# Altium footprint library F4SDR.PcbLib: 69 footprints (part 2 of 5)
Each footprint in its own frame and in the unit in brackets; x right, y up, seen from the top. Pads: shape width x height; smd on the part's side, far side on the other; paste and mask are expansions set on the pad; w line width, h text height; cw(c..) or ccw(c..) is an arc to the next point about the centre after c.
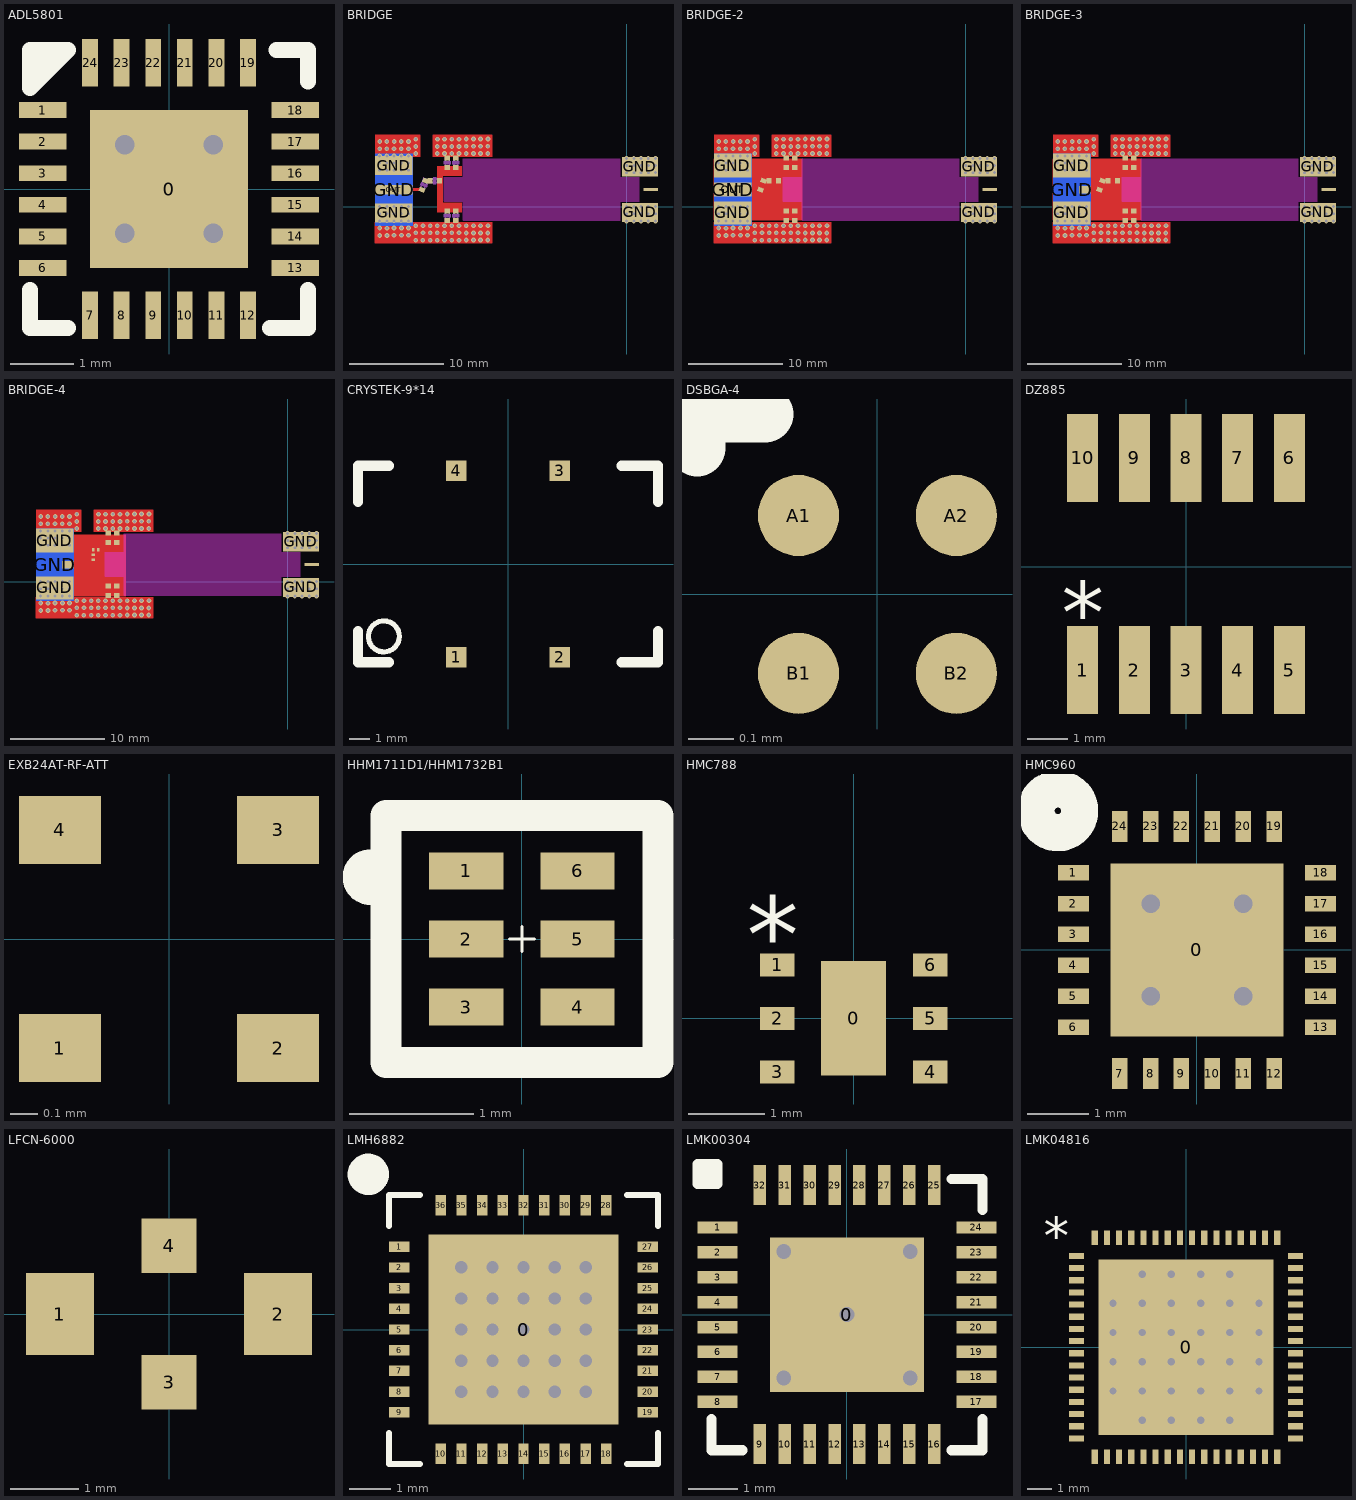
[diagram p1: the footprints below, top view; thin cyan lines are the x and y axes]

## ADL5801 [mm]
pads (25):
  rect 2.5x2.5 smd: 0(0,0)
  rect 0.75x0.25 smd: 1(-2,1.25) 2(-2,0.75) 3(-2,0.25) 4(-2,-0.25) 5(-2,-0.75) 6(-2,-1.25) 13(2,-1.25) 14(2,-0.75) 15(2,-0.25) 16(2,0.25) 17(2,0.75) 18(2,1.25)
  rect 0.25x0.75 smd: 7(-1.25,-2) 8(-0.75,-2) 9(-0.25,-2) 10(0.25,-2) 11(0.75,-2) 12(1.25,-2) 19(1.25,2) 20(0.75,2) 21(0.25,2) 22(-0.25,2) 23(-0.75,2) 24(-1.25,2)
via -0.7,-0.7 diameter 0.508 hole 0.305
via 0.7,-0.7 diameter 0.508 hole 0.305
via 0.7,0.7 diameter 0.508 hole 0.305
via -0.7,0.7 diameter 0.508 hole 0.305
Top Overlay:
  lines w0.254: -2.2,-1.6 -2.2,-2.2 -1.6,-2.2 ; -2,2 -1.8,2.2 -1.6,2.2 ; 1.6,-2.2 2.2,-2.2 2.2,-1.6 ; 1.7,2.2 2.2,2.2 2.2,1.7 ; -1.6,2.2 -2.2,1.6 -2.2,2.2 -1.6,2.2
3D body: height 0.85, standoff 0, extent -2,-2 2,2

## BRIDGE [mil]
pads (19):
  rect 20x24 smd: 2(-778.39,107.28) COUPLE(-818.07,107.28)
  rect 24x20 smd: 2(-745.91,-18.39) 2(-745.91,162.4) 2(-710.47,162.4) 2(-710.47,-18.39) GND(-745.91,-58.07) GND(-745.91,202.09) GND(-710.47,202.09) GND(-710.47,-58.07)
  rect 20x24 smd rot 70: COUPLE(-837.44,107.47) OUT(-850.71,70.35)
  rect 156x78.74 smd: GND(-969.33,-26.57) GND(-969.33,170.28)
  rect 156x300 smd far side: GND(-967.44,70.47)
  rect 150x80 smd: GND(55.47,-24.53) GND(55.47,165.47)
  rect 156x39 smd: OUT(-969.44,70.47)
  rect 59.06x13 smd: SOURCE(100.47,70.47)
via 120,-60 diameter 19.68 hole 12
via -0.47,-60.47 diameter 19.68 hole 12
via 59.53,-60.47 diameter 19.68 hole 12
via 30,-60.47 diameter 19.68 hole 12
via 90,-60.47 diameter 19.68 hole 12
via 120,200 diameter 19.68 hole 12
via -0.47,199.53 diameter 19.68 hole 12
via 59.53,199.53 diameter 19.68 hole 12
via 30,199.53 diameter 19.68 hole 12
via 90,199.53 diameter 19.68 hole 12
via -667.44,-110 diameter 19.68 hole 12
via -667.44,-139.53 diameter 19.68 hole 12
via -637.44,-110 diameter 19.68 hole 12
via -637.44,-139.53 diameter 19.68 hole 12
via -607.44,-110 diameter 19.68 hole 12
via -607.44,-139.53 diameter 19.68 hole 12
via -577.44,-110 diameter 19.68 hole 12
via -577.44,-139.53 diameter 19.68 hole 12
via -576.97,-79.53 diameter 19.68 hole 12
via -636.97,-79.53 diameter 19.68 hole 12
via -607.44,-79.53 diameter 19.68 hole 12
via -667.44,-79.53 diameter 19.68 hole 12
via -667.44,280.94 diameter 19.68 hole 12
via -607.44,280.94 diameter 19.68 hole 12
via -636.97,280.94 diameter 19.68 hole 12
via -576.97,280.94 diameter 19.68 hole 12
via -577.44,220.94 diameter 19.68 hole 12
via -577.44,250.47 diameter 19.68 hole 12
via -607.44,220.94 diameter 19.68 hole 12
via -607.44,250.47 diameter 19.68 hole 12
via -637.44,220.94 diameter 19.68 hole 12
via -637.44,250.47 diameter 19.68 hole 12
via -667.44,220.94 diameter 19.68 hole 12
via -667.44,250.47 diameter 19.68 hole 12
via 120.47,140.94 diameter 19.68 hole 12
via 120.47,170.94 diameter 19.68 hole 12
via 90.47,170.94 diameter 19.68 hole 12
via 60.47,170.94 diameter 19.68 hole 12
via 30.47,170.94 diameter 19.68 hole 12
via 0.47,170.94 diameter 19.68 hole 12
via 0,140.47 diameter 19.68 hole 12
via 60,140.47 diameter 19.68 hole 12
via 30.47,140.47 diameter 19.68 hole 12
via 90.47,140.47 diameter 19.68 hole 12
via -1027.44,-120 diameter 19.68 hole 12
via -1027.44,-89.53 diameter 19.68 hole 12
via -996.97,-90 diameter 19.68 hole 12
via -996.97,-120 diameter 19.68 hole 12
via -967.44,-119.53 diameter 19.68 hole 12
via -1027.44,0.47 diameter 19.68 hole 12
via -967.44,-89.06 diameter 19.68 hole 12
via -967.44,0.47 diameter 19.68 hole 12
via -996.97,0.47 diameter 19.68 hole 12
via -907.44,0.47 diameter 19.68 hole 12
via -936.97,0.47 diameter 19.68 hole 12
via -907.44,-59.53 diameter 19.68 hole 12
via -907.44,-30 diameter 19.68 hole 12
via -937.44,-59.53 diameter 19.68 hole 12
via -937.44,-30 diameter 19.68 hole 12
via -967.44,-59.53 diameter 19.68 hole 12
via -967.44,-30 diameter 19.68 hole 12
via -997.44,-59.53 diameter 19.68 hole 12
via -997.44,-30 diameter 19.68 hole 12
via -1027.44,-59.53 diameter 19.68 hole 12
via -1027.44,-30 diameter 19.68 hole 12
via -907.44,-89.53 diameter 19.68 hole 12
via -936.97,-89.53 diameter 19.68 hole 12
via -907.44,-119.53 diameter 19.68 hole 12
via -936.97,-119.53 diameter 19.68 hole 12
via -907.44,270.47 diameter 19.68 hole 12
via -697.44,-140 diameter 19.68 hole 12
via -757.44,-140 diameter 19.68 hole 12
via -727.91,-140 diameter 19.68 hole 12
via -817.44,-140 diameter 19.68 hole 12
via -787.91,-140 diameter 19.68 hole 12
via -877.44,-140 diameter 19.68 hole 12
via -847.91,-140 diameter 19.68 hole 12
via -877.44,-80 diameter 19.68 hole 12
via -877.44,-109.53 diameter 19.68 hole 12
via -847.44,-80 diameter 19.68 hole 12
via -847.44,-109.53 diameter 19.68 hole 12
via -817.44,-80 diameter 19.68 hole 12
via -817.44,-109.53 diameter 19.68 hole 12
via -787.44,-80 diameter 19.68 hole 12
via -787.44,-109.53 diameter 19.68 hole 12
via -757.44,-80 diameter 19.68 hole 12
via -757.44,-109.53 diameter 19.68 hole 12
via -727.44,-80 diameter 19.68 hole 12
via -727.44,-109.53 diameter 19.68 hole 12
via -697.44,-80 diameter 19.68 hole 12
via -697.44,-109.53 diameter 19.68 hole 12
via -907.44,180.47 diameter 19.68 hole 12
via -907.44,150.94 diameter 19.68 hole 12
via -937.44,180.47 diameter 19.68 hole 12
via -937.44,150.94 diameter 19.68 hole 12
via -967.44,180.47 diameter 19.68 hole 12
via -967.44,150.94 diameter 19.68 hole 12
via -997.44,180.47 diameter 19.68 hole 12
via -997.44,150.94 diameter 19.68 hole 12
via -1027.44,180.47 diameter 19.68 hole 12
via -1027.44,150.94 diameter 19.68 hole 12
via -1027.44,210.94 diameter 19.68 hole 12
via -1027.44,240.47 diameter 19.68 hole 12
via -997.44,210.94 diameter 19.68 hole 12
via -997.44,240.47 diameter 19.68 hole 12
via -967.44,210.94 diameter 19.68 hole 12
via -967.44,240.47 diameter 19.68 hole 12
via -937.44,210.94 diameter 19.68 hole 12
via -937.44,240.47 diameter 19.68 hole 12
via -907.44,210.94 diameter 19.68 hole 12
via -907.44,240.47 diameter 19.68 hole 12
via -877.44,250 diameter 19.68 hole 12
via -877.44,220.47 diameter 19.68 hole 12
via -787.44,250 diameter 19.68 hole 12
via -787.44,220.47 diameter 19.68 hole 12
via -757.44,250 diameter 19.68 hole 12
via -757.44,220.47 diameter 19.68 hole 12
via -727.44,250 diameter 19.68 hole 12
via -727.44,220.47 diameter 19.68 hole 12
via -697.44,250 diameter 19.68 hole 12
via -697.44,220.47 diameter 19.68 hole 12
via -726.97,280.47 diameter 19.68 hole 12
via -697.44,280.47 diameter 19.68 hole 12
via -786.97,280.47 diameter 19.68 hole 12
via -757.44,280.47 diameter 19.68 hole 12
via -877.44,280.47 diameter 19.68 hole 12
via -966.97,270.47 diameter 19.68 hole 12
via -937.44,270.47 diameter 19.68 hole 12
via -1026.97,270.47 diameter 19.68 hole 12
via -997.44,270.47 diameter 19.68 hole 12
via 30,0.47 diameter 19.68 hole 12
via 90,0.47 diameter 19.68 hole 12
via 60.47,0.47 diameter 19.68 hole 12
via 120.47,0.47 diameter 19.68 hole 12
via 120,-30 diameter 19.68 hole 12
via 90,-30 diameter 19.68 hole 12
via 60,-30 diameter 19.68 hole 12
via 30,-30 diameter 19.68 hole 12
via 0,-30 diameter 19.68 hole 12
via 0,0 diameter 19.68 hole 12
Top Layer:
  rectangle: -1047.44,205.47 -857.44,300.47
  rectangle: -807.44,206.69 -557.44,300.47
  region: -557.44,-63.98 -1048.07,-63.98 -1048.07,-154.53 -557.44,-154.53
  region: -685.87,128.94 -764.61,128.94 -764.61,15.75 -685.87,15.75 -685.87,-23.62 -788.23,-23.62 -788.23,168.31 -685.87,168.31
  lines w13: -946.44,70.35 -850.71,70.35
Top Solder:
  rectangle: -792.44,121.06 -678.98,170.47
  region: -677.44,19.88 -790.91,19.88 -790.91,-29.53 -677.44,-29.53
Keep-Out Layer:
  board cut-out: -25.91,-57.86 -25.91,20.88 52.83,20.88 52.83,119.31 -25.91,119.31 -25.91,198.05 -678.7,198.05 -678.7,119.31 -757.44,119.31 -757.44,20.88 -678.7,20.88 -678.7,-57.86
  lines w5: -757.72,22.64 -678.98,22.64 -678.98,-56.1 -26.18,-56.1 -26.18,22.64 52.56,22.64 52.56,121.06 -26.18,121.06 -26.18,199.8 -678.98,199.8 -678.98,121.06 -757.72,121.06 -757.72,22.64
Mechanical 6:
  region: -729.92,174.04 -729.92,190.04 -761.92,190.04 -761.92,174.04
  region: -694.48,174.05 -694.48,190.05 -726.48,190.05 -726.48,174.05
  region: -830.91,77.44 -825.44,92.47 -855.51,103.42 -860.98,88.38
  region: -790.07,123.28 -806.07,123.28 -806.07,91.28 -790.07,91.28
  region: -694.49,-46.39 -694.49,-30.39 -726.49,-30.39 -726.49,-46.39
  region: -729.91,-46.43 -729.91,-30.43 -761.91,-30.43 -761.91,-46.43
Mechanical 16:
  region: -733.92,198.04 -733.92,210.04 -757.92,210.04 -757.92,198.04
  region: -733.92,154.04 -733.92,166.04 -757.92,166.04 -757.92,154.04
  region: -827.24,102.79 -823.13,114.06 -845.69,122.27 -849.79,111
  region: -842.28,61.44 -838.18,72.71 -860.73,80.92 -864.84,69.64
  region: -814.07,119.28 -826.07,119.28 -826.07,95.28 -814.07,95.28
  region: -770.07,119.28 -782.07,119.28 -782.07,95.28 -770.07,95.28
  region: -698.48,198.05 -698.48,210.05 -722.48,210.05 -722.48,198.05
  region: -698.48,154.05 -698.48,166.05 -722.48,166.05 -722.48,154.05
  region: -698.49,-22.39 -698.49,-10.39 -722.49,-10.39 -722.49,-22.39
  region: -698.49,-66.39 -698.49,-54.39 -722.49,-54.39 -722.49,-66.39
  region: -733.91,-22.43 -733.91,-10.43 -757.91,-10.43 -757.91,-22.43
  region: -733.91,-66.43 -733.91,-54.43 -757.91,-54.43 -757.91,-66.43
  lines w8: -858.33,75.79 -844.65,113.38 ; -843.3,70.32 -829.62,107.91 ; -818.07,99.28 -778.07,99.28 ; -818.07,115.28 -778.07,115.28 ; -753.91,-58.39 -753.91,-18.39 ; -753.91,162.09 -753.91,202.09 ; -737.91,-58.39 -737.91,-18.39 ; -737.91,162.09 -737.91,202.09 ; -718.47,-58.39 -718.47,-18.39 ; -718.47,162.09 -718.47,202.09 ; -702.47,-58.39 -702.47,-18.39 ; -702.47,162.09 -702.47,202.09

## BRIDGE-2 [mil]
pads (19):
  rect 20x24 smd: 2(-778.39,107.28) COUPLE(-818.07,107.28)
  rect 24x20 smd: 2(-745.91,-18.39) 2(-745.91,162.4) 2(-710.47,162.4) 2(-710.47,-18.39) GND(-745.91,-58.07) GND(-745.91,202.09) GND(-710.47,202.09) GND(-710.47,-58.07)
  rect 20x24 smd rot 70: COUPLE(-840.44,107.47) OUT(-853.71,70.35)
  rect 156x95.5 smd: GND(-969.33,-26.57)
  rect 156x101 smd: GND(-969.33,170.28)
  rect 156x300 smd far side: GND(-967.44,70.47)
  rect 150x80 smd: GND(55.47,-24.53) GND(55.47,165.47)
  rect 156x59 smd: OUT(-969.44,70.47)
  rect 59.06x13 smd: SOURCE(100.47,70.47)
via 0,0 diameter 19.68 hole 12
via 0,-30 diameter 19.68 hole 12
via 30,-30 diameter 19.68 hole 12
via 60,-30 diameter 19.68 hole 12
via 90,-30 diameter 19.68 hole 12
via 120,-30 diameter 19.68 hole 12
via 120.47,0.47 diameter 19.68 hole 12
via 60.47,0.47 diameter 19.68 hole 12
via 90,0.47 diameter 19.68 hole 12
via 30,0.47 diameter 19.68 hole 12
via -997.44,270.47 diameter 19.68 hole 12
via -1026.97,270.47 diameter 19.68 hole 12
via -937.44,270.47 diameter 19.68 hole 12
via -966.97,270.47 diameter 19.68 hole 12
via -877.44,280.47 diameter 19.68 hole 12
via -757.44,280.47 diameter 19.68 hole 12
via -786.97,280.47 diameter 19.68 hole 12
via -697.44,280.47 diameter 19.68 hole 12
via -726.97,280.47 diameter 19.68 hole 12
via -697.44,220.47 diameter 19.68 hole 12
via -697.44,250 diameter 19.68 hole 12
via -727.44,220.47 diameter 19.68 hole 12
via -727.44,250 diameter 19.68 hole 12
via -757.44,220.47 diameter 19.68 hole 12
via -757.44,250 diameter 19.68 hole 12
via -787.44,220.47 diameter 19.68 hole 12
via -787.44,250 diameter 19.68 hole 12
via -877.44,220.47 diameter 19.68 hole 12
via -877.44,250 diameter 19.68 hole 12
via -907.44,240.47 diameter 19.68 hole 12
via -907.44,210.94 diameter 19.68 hole 12
via -937.44,240.47 diameter 19.68 hole 12
via -937.44,210.94 diameter 19.68 hole 12
via -967.44,240.47 diameter 19.68 hole 12
via -967.44,210.94 diameter 19.68 hole 12
via -997.44,240.47 diameter 19.68 hole 12
via -997.44,210.94 diameter 19.68 hole 12
via -1027.44,240.47 diameter 19.68 hole 12
via -1027.44,210.94 diameter 19.68 hole 12
via -1027.44,150.94 diameter 19.68 hole 12
via -1027.44,180.47 diameter 19.68 hole 12
via -997.44,150.94 diameter 19.68 hole 12
via -997.44,180.47 diameter 19.68 hole 12
via -967.44,150.94 diameter 19.68 hole 12
via -967.44,180.47 diameter 19.68 hole 12
via -937.44,150.94 diameter 19.68 hole 12
via -937.44,180.47 diameter 19.68 hole 12
via -907.44,150.94 diameter 19.68 hole 12
via -907.44,180.47 diameter 19.68 hole 12
via -697.44,-109.53 diameter 19.68 hole 12
via -697.44,-80 diameter 19.68 hole 12
via -727.44,-109.53 diameter 19.68 hole 12
via -727.44,-80 diameter 19.68 hole 12
via -757.44,-109.53 diameter 19.68 hole 12
via -757.44,-80 diameter 19.68 hole 12
via -787.44,-109.53 diameter 19.68 hole 12
via -787.44,-80 diameter 19.68 hole 12
via -817.44,-109.53 diameter 19.68 hole 12
via -817.44,-80 diameter 19.68 hole 12
via -847.44,-109.53 diameter 19.68 hole 12
via -847.44,-80 diameter 19.68 hole 12
via -877.44,-109.53 diameter 19.68 hole 12
via -877.44,-80 diameter 19.68 hole 12
via -847.91,-140 diameter 19.68 hole 12
via -877.44,-140 diameter 19.68 hole 12
via -787.91,-140 diameter 19.68 hole 12
via -817.44,-140 diameter 19.68 hole 12
via -727.91,-140 diameter 19.68 hole 12
via -757.44,-140 diameter 19.68 hole 12
via -697.44,-140 diameter 19.68 hole 12
via -907.44,270.47 diameter 19.68 hole 12
via -936.97,-119.53 diameter 19.68 hole 12
via -907.44,-119.53 diameter 19.68 hole 12
via -936.97,-89.53 diameter 19.68 hole 12
via -907.44,-89.53 diameter 19.68 hole 12
via -1027.44,-30 diameter 19.68 hole 12
via -1027.44,-59.53 diameter 19.68 hole 12
via -997.44,-30 diameter 19.68 hole 12
via -997.44,-59.53 diameter 19.68 hole 12
via -967.44,-30 diameter 19.68 hole 12
via -967.44,-59.53 diameter 19.68 hole 12
via -937.44,-30 diameter 19.68 hole 12
via -937.44,-59.53 diameter 19.68 hole 12
via -907.44,-30 diameter 19.68 hole 12
via -907.44,-59.53 diameter 19.68 hole 12
via -936.97,0.47 diameter 19.68 hole 12
via -907.44,0.47 diameter 19.68 hole 12
via -996.97,0.47 diameter 19.68 hole 12
via -967.44,0.47 diameter 19.68 hole 12
via -967.44,-89.06 diameter 19.68 hole 12
via -1027.44,0.47 diameter 19.68 hole 12
via -967.44,-119.53 diameter 19.68 hole 12
via -996.97,-120 diameter 19.68 hole 12
via -996.97,-90 diameter 19.68 hole 12
via -1027.44,-89.53 diameter 19.68 hole 12
via -1027.44,-120 diameter 19.68 hole 12
via 90.47,140.47 diameter 19.68 hole 12
via 30.47,140.47 diameter 19.68 hole 12
via 60,140.47 diameter 19.68 hole 12
via 0,140.47 diameter 19.68 hole 12
via 0.47,170.94 diameter 19.68 hole 12
via 30.47,170.94 diameter 19.68 hole 12
via 60.47,170.94 diameter 19.68 hole 12
via 90.47,170.94 diameter 19.68 hole 12
via 120.47,170.94 diameter 19.68 hole 12
via 120.47,140.94 diameter 19.68 hole 12
via -667.44,250.47 diameter 19.68 hole 12
via -667.44,220.94 diameter 19.68 hole 12
via -637.44,250.47 diameter 19.68 hole 12
via -637.44,220.94 diameter 19.68 hole 12
via -607.44,250.47 diameter 19.68 hole 12
via -607.44,220.94 diameter 19.68 hole 12
via -577.44,250.47 diameter 19.68 hole 12
via -577.44,220.94 diameter 19.68 hole 12
via -576.97,280.94 diameter 19.68 hole 12
via -636.97,280.94 diameter 19.68 hole 12
via -607.44,280.94 diameter 19.68 hole 12
via -667.44,280.94 diameter 19.68 hole 12
via -667.44,-79.53 diameter 19.68 hole 12
via -607.44,-79.53 diameter 19.68 hole 12
via -636.97,-79.53 diameter 19.68 hole 12
via -576.97,-79.53 diameter 19.68 hole 12
via -577.44,-139.53 diameter 19.68 hole 12
via -577.44,-110 diameter 19.68 hole 12
via -607.44,-139.53 diameter 19.68 hole 12
via -607.44,-110 diameter 19.68 hole 12
via -637.44,-139.53 diameter 19.68 hole 12
via -637.44,-110 diameter 19.68 hole 12
via -667.44,-139.53 diameter 19.68 hole 12
via -667.44,-110 diameter 19.68 hole 12
via 90,199.53 diameter 19.68 hole 12
via 30,199.53 diameter 19.68 hole 12
via 59.53,199.53 diameter 19.68 hole 12
via -0.47,199.53 diameter 19.68 hole 12
via 120,200 diameter 19.68 hole 12
via 90,-60.47 diameter 19.68 hole 12
via 30,-60.47 diameter 19.68 hole 12
via 59.53,-60.47 diameter 19.68 hole 12
via -0.47,-60.47 diameter 19.68 hole 12
via 120,-60 diameter 19.68 hole 12
Top Layer:
  region: -557.44,-63.98 -1048.07,-63.98 -1048.07,-154.53 -557.44,-154.53
  rectangle: -807.44,206.69 -557.44,300.47
  rectangle: -1047.44,205.47 -857.44,300.47
  pour cut-out: -678.98,199.8 -679.78,199 -1047,199 -1047,-56.1 -1040.2,-56.1 -678.98,-56.1
  region: -685.87,128.94 -764.61,128.94 -764.61,15.75 -685.87,15.75 -685.87,-23.62 -788.23,-23.62 -788.23,168.31 -685.87,168.31
  lines w12: -946.44,70.35 -850.71,70.35
Top Solder:
  region: -677.44,19.88 -790.91,19.88 -790.91,-29.53 -677.44,-29.53
  rectangle: -792.44,121.06 -678.98,170.47
  rectangle: -794.44,207.47 -677.44,237.47
  rectangle: -790.44,-96.53 -676.44,-64.53
Internal Plane 1:
  rectangle: -1047.44,14.47 -891.44,126.47
Keep-Out Layer:
  board cut-out: -25.91,-57.86 -25.91,20.88 52.83,20.88 52.83,119.31 -25.91,119.31 -25.91,198.05 -678.7,198.05 -678.7,119.31 -757.44,119.31 -757.44,20.88 -678.7,20.88 -678.7,-57.86
  lines w5: -757.72,22.64 -757.72,121.06 -678.98,121.06 -678.98,199.8 -26.18,199.8 -26.18,121.06 52.56,121.06 52.56,22.64 -26.18,22.64 -26.18,-56.1 -678.98,-56.1 -678.98,22.64 -757.72,22.64
Mechanical 6:
  region: -729.91,-46.43 -729.91,-30.43 -761.91,-30.43 -761.91,-46.43
  region: -694.49,-46.39 -694.49,-30.39 -726.49,-30.39 -726.49,-46.39
  region: -790.07,123.28 -806.07,123.28 -806.07,91.28 -790.07,91.28
  region: -833.91,77.44 -828.44,92.47 -858.51,103.42 -863.98,88.38
  region: -694.48,174.05 -694.48,190.05 -726.48,190.05 -726.48,174.05
  region: -729.92,174.04 -729.92,190.04 -761.92,190.04 -761.92,174.04

## BRIDGE-3 [mil]
pads (19):
  rect 20x24 smd: 2(-778.39,107.28) COUPLE(-818.07,107.28)
  rect 24x20 smd: 2(-745.91,-18.39) 2(-745.91,162.4) 2(-710.47,162.4) 2(-710.47,-18.39) GND(-745.91,-58.07) GND(-745.91,202.09) GND(-710.47,202.09) GND(-710.47,-58.07)
  rect 20x24 smd rot 70: COUPLE(-840.44,107.47) OUT(-853.71,70.35)
  rect 156x95.5 smd: GND(-969.33,-26.57)
  rect 156x101 smd: GND(-969.33,170.28)
  rect 156x300 smd far side: GND(-967.44,70.47)
  rect 150x80 smd: GND(55.47,-24.53) GND(55.47,165.47)
  rect 47.24x29.53 smd: OUT(-914.37,69.88)
  rect 59.06x13 smd: SOURCE(100.47,70.47)
via 120,-60 diameter 19.68 hole 12
via -0.47,-60.47 diameter 19.68 hole 12
via 59.53,-60.47 diameter 19.68 hole 12
via 30,-60.47 diameter 19.68 hole 12
via 90,-60.47 diameter 19.68 hole 12
via 120,200 diameter 19.68 hole 12
via -0.47,199.53 diameter 19.68 hole 12
via 59.53,199.53 diameter 19.68 hole 12
via 30,199.53 diameter 19.68 hole 12
via 90,199.53 diameter 19.68 hole 12
via -667.44,-110 diameter 19.68 hole 12
via -667.44,-139.53 diameter 19.68 hole 12
via -637.44,-110 diameter 19.68 hole 12
via -637.44,-139.53 diameter 19.68 hole 12
via -607.44,-110 diameter 19.68 hole 12
via -607.44,-139.53 diameter 19.68 hole 12
via -577.44,-110 diameter 19.68 hole 12
via -577.44,-139.53 diameter 19.68 hole 12
via -576.97,-79.53 diameter 19.68 hole 12
via -636.97,-79.53 diameter 19.68 hole 12
via -607.44,-79.53 diameter 19.68 hole 12
via -667.44,-79.53 diameter 19.68 hole 12
via -667.44,280.94 diameter 19.68 hole 12
via -607.44,280.94 diameter 19.68 hole 12
via -636.97,280.94 diameter 19.68 hole 12
via -576.97,280.94 diameter 19.68 hole 12
via -577.44,220.94 diameter 19.68 hole 12
via -577.44,250.47 diameter 19.68 hole 12
via -607.44,220.94 diameter 19.68 hole 12
via -607.44,250.47 diameter 19.68 hole 12
via -637.44,220.94 diameter 19.68 hole 12
via -637.44,250.47 diameter 19.68 hole 12
via -667.44,220.94 diameter 19.68 hole 12
via -667.44,250.47 diameter 19.68 hole 12
via 120.47,140.94 diameter 19.68 hole 12
via 120.47,170.94 diameter 19.68 hole 12
via 90.47,170.94 diameter 19.68 hole 12
via 60.47,170.94 diameter 19.68 hole 12
via 30.47,170.94 diameter 19.68 hole 12
via 0.47,170.94 diameter 19.68 hole 12
via 0,140.47 diameter 19.68 hole 12
via 60,140.47 diameter 19.68 hole 12
via 30.47,140.47 diameter 19.68 hole 12
via 90.47,140.47 diameter 19.68 hole 12
via -1027.44,-120 diameter 19.68 hole 12
via -1027.44,-89.53 diameter 19.68 hole 12
via -996.97,-90 diameter 19.68 hole 12
via -996.97,-120 diameter 19.68 hole 12
via -967.44,-119.53 diameter 19.68 hole 12
via -1027.44,0.47 diameter 19.68 hole 12
via -967.44,-89.06 diameter 19.68 hole 12
via -967.44,0.47 diameter 19.68 hole 12
via -996.97,0.47 diameter 19.68 hole 12
via -907.44,0.47 diameter 19.68 hole 12
via -936.97,0.47 diameter 19.68 hole 12
via -907.44,-59.53 diameter 19.68 hole 12
via -907.44,-30 diameter 19.68 hole 12
via -937.44,-59.53 diameter 19.68 hole 12
via -937.44,-30 diameter 19.68 hole 12
via -967.44,-59.53 diameter 19.68 hole 12
via -967.44,-30 diameter 19.68 hole 12
via -997.44,-59.53 diameter 19.68 hole 12
via -997.44,-30 diameter 19.68 hole 12
via -1027.44,-59.53 diameter 19.68 hole 12
via -1027.44,-30 diameter 19.68 hole 12
via -907.44,-89.53 diameter 19.68 hole 12
via -936.97,-89.53 diameter 19.68 hole 12
via -907.44,-119.53 diameter 19.68 hole 12
via -936.97,-119.53 diameter 19.68 hole 12
via -907.44,270.47 diameter 19.68 hole 12
via -697.44,-140 diameter 19.68 hole 12
via -757.44,-140 diameter 19.68 hole 12
via -727.91,-140 diameter 19.68 hole 12
via -817.44,-140 diameter 19.68 hole 12
via -787.91,-140 diameter 19.68 hole 12
via -877.44,-140 diameter 19.68 hole 12
via -847.91,-140 diameter 19.68 hole 12
via -877.44,-80 diameter 19.68 hole 12
via -877.44,-109.53 diameter 19.68 hole 12
via -847.44,-80 diameter 19.68 hole 12
via -847.44,-109.53 diameter 19.68 hole 12
via -817.44,-80 diameter 19.68 hole 12
via -817.44,-109.53 diameter 19.68 hole 12
via -787.44,-80 diameter 19.68 hole 12
via -787.44,-109.53 diameter 19.68 hole 12
via -757.44,-80 diameter 19.68 hole 12
via -757.44,-109.53 diameter 19.68 hole 12
via -727.44,-80 diameter 19.68 hole 12
via -727.44,-109.53 diameter 19.68 hole 12
via -697.44,-80 diameter 19.68 hole 12
via -697.44,-109.53 diameter 19.68 hole 12
via -907.44,180.47 diameter 19.68 hole 12
via -907.44,150.94 diameter 19.68 hole 12
via -937.44,180.47 diameter 19.68 hole 12
via -937.44,150.94 diameter 19.68 hole 12
via -967.44,180.47 diameter 19.68 hole 12
via -967.44,150.94 diameter 19.68 hole 12
via -997.44,180.47 diameter 19.68 hole 12
via -997.44,150.94 diameter 19.68 hole 12
via -1027.44,180.47 diameter 19.68 hole 12
via -1027.44,150.94 diameter 19.68 hole 12
via -1027.44,210.94 diameter 19.68 hole 12
via -1027.44,240.47 diameter 19.68 hole 12
via -997.44,210.94 diameter 19.68 hole 12
via -997.44,240.47 diameter 19.68 hole 12
via -967.44,210.94 diameter 19.68 hole 12
via -967.44,240.47 diameter 19.68 hole 12
via -937.44,210.94 diameter 19.68 hole 12
via -937.44,240.47 diameter 19.68 hole 12
via -907.44,210.94 diameter 19.68 hole 12
via -907.44,240.47 diameter 19.68 hole 12
via -877.44,250 diameter 19.68 hole 12
via -877.44,220.47 diameter 19.68 hole 12
via -787.44,250 diameter 19.68 hole 12
via -787.44,220.47 diameter 19.68 hole 12
via -757.44,250 diameter 19.68 hole 12
via -757.44,220.47 diameter 19.68 hole 12
via -727.44,250 diameter 19.68 hole 12
via -727.44,220.47 diameter 19.68 hole 12
via -697.44,250 diameter 19.68 hole 12
via -697.44,220.47 diameter 19.68 hole 12
via -726.97,280.47 diameter 19.68 hole 12
via -697.44,280.47 diameter 19.68 hole 12
via -786.97,280.47 diameter 19.68 hole 12
via -757.44,280.47 diameter 19.68 hole 12
via -877.44,280.47 diameter 19.68 hole 12
via -966.97,270.47 diameter 19.68 hole 12
via -937.44,270.47 diameter 19.68 hole 12
via -1026.97,270.47 diameter 19.68 hole 12
via -997.44,270.47 diameter 19.68 hole 12
via 30,0.47 diameter 19.68 hole 12
via 90,0.47 diameter 19.68 hole 12
via 60.47,0.47 diameter 19.68 hole 12
via 120.47,0.47 diameter 19.68 hole 12
via 120,-30 diameter 19.68 hole 12
via 90,-30 diameter 19.68 hole 12
via 60,-30 diameter 19.68 hole 12
via 30,-30 diameter 19.68 hole 12
via 0,-30 diameter 19.68 hole 12
via 0,0 diameter 19.68 hole 12
Top Layer:
  rectangle: -1047.44,205.47 -857.44,300.47
  rectangle: -807.44,206.69 -557.44,300.47
  region: -557.44,-63.98 -1048.07,-63.98 -1048.07,-154.53 -557.44,-154.53
  region: -685.87,128.94 -764.61,128.94 -764.61,15.75 -685.87,15.75 -685.87,-23.62 -788.23,-23.62 -788.23,168.31 -685.87,168.31
  pour cut-out: -678.98,199.8 -679.78,199 -1047,199 -1047,-56.1 -1040.2,-56.1 -678.98,-56.1
  lines w12: -893.7,70.35 -850.71,70.35
Top Solder:
  rectangle: -790.44,-96.53 -676.44,-64.53
  rectangle: -794.44,207.47 -677.44,237.47
  rectangle: -792.44,121.06 -678.98,170.47
  region: -677.44,19.88 -790.91,19.88 -790.91,-29.53 -677.44,-29.53
Internal Plane 1:
  region: -888.78,90.55 -1048.78,90.55 -1048.78,51.18 -888.78,51.18
Keep-Out Layer:
  board cut-out: -25.91,-57.86 -25.91,20.88 52.83,20.88 52.83,119.31 -25.91,119.31 -25.91,198.05 -678.7,198.05 -678.7,119.31 -757.44,119.31 -757.44,20.88 -678.7,20.88 -678.7,-57.86
  lines w5: -757.72,22.64 -678.98,22.64 -678.98,-56.1 -26.18,-56.1 -26.18,22.64 52.56,22.64 52.56,121.06 -26.18,121.06 -26.18,199.8 -678.98,199.8 -678.98,121.06 -757.72,121.06 -757.72,22.64
Mechanical 6:
  region: -729.92,174.04 -729.92,190.04 -761.92,190.04 -761.92,174.04
  region: -694.48,174.05 -694.48,190.05 -726.48,190.05 -726.48,174.05
  region: -833.91,77.44 -828.44,92.47 -858.51,103.42 -863.98,88.38
  region: -790.07,123.28 -806.07,123.28 -806.07,91.28 -790.07,91.28
  region: -694.49,-46.39 -694.49,-30.39 -726.49,-30.39 -726.49,-46.39
  region: -729.91,-46.43 -729.91,-30.43 -761.91,-30.43 -761.91,-46.43

## BRIDGE-4 [mm]
pads (19):
  rect 0.25x0.35 smd: 2(-20,3.375) COUPLE(-20.55,3.375)
  rect 0.61x0.508 smd: 2(-18.946,-0.467) 2(-18.946,4.125) 2(-18.046,4.125) 2(-18.046,-0.467) GND(-18.946,-1.475) GND(-18.946,5.133) GND(-18.046,5.133) GND(-18.046,-1.475)
  rect 0.35x0.25 smd: COUPLE(-20.55,2.85) OUT(-20.55,2.3)
  rect 3.962x2.426 smd: GND(-24.621,-0.675)
  rect 3.962x2.565 smd: GND(-24.621,4.325)
  rect 3.962x7.62 smd far side: GND(-24.573,1.79)
  rect 3.81x2.032 smd: GND(1.409,-0.623) GND(1.409,4.203)
  rect 1.2x0.75 smd: OUT(-23.225,1.775)
  rect 1.5x0.33 smd: SOURCE(2.552,1.79)
via 3.048,-1.524 diameter 0.5 hole 0.305
via -0.012,-1.536 diameter 0.5 hole 0.305
via 1.512,-1.536 diameter 0.5 hole 0.305
via 0.762,-1.536 diameter 0.5 hole 0.305
via 2.286,-1.536 diameter 0.5 hole 0.305
via 3.048,5.08 diameter 0.5 hole 0.305
via -0.012,5.068 diameter 0.5 hole 0.305
via 1.512,5.068 diameter 0.5 hole 0.305
via 0.762,5.068 diameter 0.5 hole 0.305
via 2.286,5.068 diameter 0.5 hole 0.305
via -16.953,-2.794 diameter 0.5 hole 0.305
via -16.953,-3.544 diameter 0.5 hole 0.305
via -16.191,-2.794 diameter 0.5 hole 0.305
via -16.191,-3.544 diameter 0.5 hole 0.305
via -15.429,-2.794 diameter 0.5 hole 0.305
via -15.429,-3.544 diameter 0.5 hole 0.305
via -14.667,-2.794 diameter 0.5 hole 0.305
via -14.667,-3.544 diameter 0.5 hole 0.305
via -14.655,-2.02 diameter 0.5 hole 0.305
via -16.179,-2.02 diameter 0.5 hole 0.305
via -15.429,-2.02 diameter 0.5 hole 0.305
via -16.953,-2.02 diameter 0.5 hole 0.305
via -16.953,7.136 diameter 0.5 hole 0.305
via -15.429,7.136 diameter 0.5 hole 0.305
via -16.179,7.136 diameter 0.5 hole 0.305
via -14.655,7.136 diameter 0.5 hole 0.305
via -14.667,5.612 diameter 0.5 hole 0.305
via -14.667,6.362 diameter 0.5 hole 0.305
via -15.429,5.612 diameter 0.5 hole 0.305
via -15.429,6.362 diameter 0.5 hole 0.305
via -16.191,5.612 diameter 0.5 hole 0.305
via -16.191,6.362 diameter 0.5 hole 0.305
via -16.953,5.612 diameter 0.5 hole 0.305
via -16.953,6.362 diameter 0.5 hole 0.305
via 3.06,3.58 diameter 0.5 hole 0.305
via 3.06,4.342 diameter 0.5 hole 0.305
via 2.298,4.342 diameter 0.5 hole 0.305
via 1.536,4.342 diameter 0.5 hole 0.305
via 0.774,4.342 diameter 0.5 hole 0.305
via 0.012,4.342 diameter 0.5 hole 0.305
via 0,3.568 diameter 0.5 hole 0.305
via 1.524,3.568 diameter 0.5 hole 0.305
via 0.774,3.568 diameter 0.5 hole 0.305
via 2.298,3.568 diameter 0.5 hole 0.305
via -26.097,-3.048 diameter 0.5 hole 0.305
via -26.097,-2.274 diameter 0.5 hole 0.305
via -25.323,-2.286 diameter 0.5 hole 0.305
via -25.323,-3.048 diameter 0.5 hole 0.305
via -24.573,-3.036 diameter 0.5 hole 0.305
via -26.097,0.012 diameter 0.5 hole 0.305
via -24.573,-2.262 diameter 0.5 hole 0.305
via -24.573,0.012 diameter 0.5 hole 0.305
via -25.323,0.012 diameter 0.5 hole 0.305
via -23.049,0.012 diameter 0.5 hole 0.305
via -23.799,0.012 diameter 0.5 hole 0.305
via -23.049,-1.512 diameter 0.5 hole 0.305
via -23.049,-0.762 diameter 0.5 hole 0.305
via -23.811,-1.512 diameter 0.5 hole 0.305
via -23.811,-0.762 diameter 0.5 hole 0.305
via -24.573,-1.512 diameter 0.5 hole 0.305
via -24.573,-0.762 diameter 0.5 hole 0.305
via -25.335,-1.512 diameter 0.5 hole 0.305
via -25.335,-0.762 diameter 0.5 hole 0.305
via -26.097,-1.512 diameter 0.5 hole 0.305
via -26.097,-0.762 diameter 0.5 hole 0.305
via -23.049,-2.274 diameter 0.5 hole 0.305
via -23.799,-2.274 diameter 0.5 hole 0.305
via -23.049,-3.036 diameter 0.5 hole 0.305
via -23.799,-3.036 diameter 0.5 hole 0.305
via -23.049,6.87 diameter 0.5 hole 0.305
via -17.715,-3.556 diameter 0.5 hole 0.305
via -19.239,-3.556 diameter 0.5 hole 0.305
via -18.489,-3.556 diameter 0.5 hole 0.305
via -20.763,-3.556 diameter 0.5 hole 0.305
via -20.013,-3.556 diameter 0.5 hole 0.305
via -22.287,-3.556 diameter 0.5 hole 0.305
via -21.537,-3.556 diameter 0.5 hole 0.305
via -22.287,-2.032 diameter 0.5 hole 0.305
via -22.287,-2.782 diameter 0.5 hole 0.305
via -21.525,-2.032 diameter 0.5 hole 0.305
via -21.525,-2.782 diameter 0.5 hole 0.305
via -20.763,-2.032 diameter 0.5 hole 0.305
via -20.763,-2.782 diameter 0.5 hole 0.305
via -20.001,-2.032 diameter 0.5 hole 0.305
via -20.001,-2.782 diameter 0.5 hole 0.305
via -19.239,-2.032 diameter 0.5 hole 0.305
via -19.239,-2.782 diameter 0.5 hole 0.305
via -18.477,-2.032 diameter 0.5 hole 0.305
via -18.477,-2.782 diameter 0.5 hole 0.305
via -17.715,-2.032 diameter 0.5 hole 0.305
via -17.715,-2.782 diameter 0.5 hole 0.305
via -23.049,4.584 diameter 0.5 hole 0.305
via -23.049,3.834 diameter 0.5 hole 0.305
via -23.811,4.584 diameter 0.5 hole 0.305
via -23.811,3.834 diameter 0.5 hole 0.305
via -24.573,4.584 diameter 0.5 hole 0.305
via -24.573,3.834 diameter 0.5 hole 0.305
via -25.335,4.584 diameter 0.5 hole 0.305
via -25.335,3.834 diameter 0.5 hole 0.305
via -26.097,4.584 diameter 0.5 hole 0.305
via -26.097,3.834 diameter 0.5 hole 0.305
via -26.097,5.358 diameter 0.5 hole 0.305
via -26.097,6.108 diameter 0.5 hole 0.305
via -25.335,5.358 diameter 0.5 hole 0.305
via -25.335,6.108 diameter 0.5 hole 0.305
via -24.573,5.358 diameter 0.5 hole 0.305
via -24.573,6.108 diameter 0.5 hole 0.305
via -23.811,5.358 diameter 0.5 hole 0.305
via -23.811,6.108 diameter 0.5 hole 0.305
via -23.049,5.358 diameter 0.5 hole 0.305
via -23.049,6.108 diameter 0.5 hole 0.305
via -22.287,6.35 diameter 0.5 hole 0.305
via -22.287,5.6 diameter 0.5 hole 0.305
via -20.001,6.35 diameter 0.5 hole 0.305
via -20.001,5.6 diameter 0.5 hole 0.305
via -19.239,6.35 diameter 0.5 hole 0.305
via -19.239,5.6 diameter 0.5 hole 0.305
via -18.477,6.35 diameter 0.5 hole 0.305
via -18.477,5.6 diameter 0.5 hole 0.305
via -17.715,6.35 diameter 0.5 hole 0.305
via -17.715,5.6 diameter 0.5 hole 0.305
via -18.465,7.124 diameter 0.5 hole 0.305
via -17.715,7.124 diameter 0.5 hole 0.305
via -19.989,7.124 diameter 0.5 hole 0.305
via -19.239,7.124 diameter 0.5 hole 0.305
via -22.287,7.124 diameter 0.5 hole 0.305
via -24.561,6.87 diameter 0.5 hole 0.305
via -23.811,6.87 diameter 0.5 hole 0.305
via -26.085,6.87 diameter 0.5 hole 0.305
via -25.335,6.87 diameter 0.5 hole 0.305
via 0.762,0.012 diameter 0.5 hole 0.305
via 2.286,0.012 diameter 0.5 hole 0.305
via 1.536,0.012 diameter 0.5 hole 0.305
via 3.06,0.012 diameter 0.5 hole 0.305
via 3.048,-0.762 diameter 0.5 hole 0.305
via 2.286,-0.762 diameter 0.5 hole 0.305
via 1.524,-0.762 diameter 0.5 hole 0.305
via 0.762,-0.762 diameter 0.5 hole 0.305
via 0,-0.762 diameter 0.5 hole 0.305
via 0,0 diameter 0.5 hole 0.305
Top Layer:
  rectangle: -26.605,5.219 -21.779,7.632
  rectangle: -20.509,5.25 -14.159,7.632
  region: -14.159,-1.625 -26.621,-1.625 -26.621,-3.925 -14.159,-3.925
  region: -17.421,3.275 -19.421,3.275 -19.421,0.4 -17.421,0.4 -17.421,-0.6 -20.021,-0.6 -20.021,4.275 -17.421,4.275
  pour cut-out: -17.116,4.945 -17.136,4.925 -26.464,4.925 -26.464,-1.555 -26.291,-1.555 -17.116,-1.555
  lines w0.305: -22.7,1.787 -20.525,1.787 -20.525,2.3 -20.55,2.3 ; -20.55,3.375 -20.55,2.85 ; -20.55,2.85 -20.55,2.85
Top Solder:
  rectangle: -20.077,-2.452 -17.182,-1.639
  rectangle: -20.179,5.27 -17.207,6.032
  rectangle: -20.128,3.075 -17.246,4.33
  region: -17.207,0.505 -20.089,0.505 -20.089,-0.75 -17.207,-0.75
Internal Plane 1:
  region: -22.575,2.3 -26.639,2.3 -26.639,1.3 -22.575,1.3
Keep-Out Layer:
  board cut-out: -0.658,-1.47 -0.658,0.53 1.342,0.53 1.342,3.03 -0.658,3.03 -0.658,5.03 -17.239,5.03 -17.239,3.03 -19.239,3.03 -19.239,0.53 -17.239,0.53 -17.239,-1.47
  lines w0.127: -19.246,0.575 -17.246,0.575 -17.246,-1.425 -0.665,-1.425 -0.665,0.575 1.335,0.575 1.335,3.075 -0.665,3.075 -0.665,5.075 -17.246,5.075 -17.246,3.075 -19.246,3.075 -19.246,0.575
Mechanical 6:
  region: -18.54,4.421 -18.54,4.827 -19.353,4.827 -19.353,4.421
  region: -17.64,4.421 -17.64,4.827 -18.453,4.827 -18.453,4.421
  region: -17.64,-1.178 -17.64,-0.772 -18.453,-0.772 -18.453,-1.178
  region: -18.54,-1.179 -18.54,-0.773 -19.352,-0.773 -19.352,-1.179
3D body: height 0.23, standoff 0, extent -20.575,3.225 -19.975,3.525
3D body: height 0.23, standoff 0, extent -20.7,2.275 -20.4,2.875

## CRYSTEK-9*14 [mil]
pads (4):
  rect 40x40 smd: 1(-100,-180) 2(100,-180) 3(100,180) 4(-100,180)
Top Overlay:
  circle w10: c-240,-140 r30
  lines w19.68: -290,-130 -290,-190 -230,-190 ; -290,120 -290,190 -230,190 ; 220,-190 290,-190 290,-130 ; 220,190 290,190 290,120
3D body: height 210, standoff 0, extent -280,-180 280,180

## DSBGA-4 [mm]
pads (4):
  round 0.18 smd: A1(-0.175,0.175) A2(0.175,0.175) B1(-0.175,-0.175) B2(0.175,-0.175)
Top Overlay:
  lines w0.127: -0.4,0.325 -0.4,0.4 -0.25,0.4
3D body: height 0.45, standoff 0, extent -0.325,-0.325 0.325,0.325

## DZ885 [mil]
pads (10):
  rect 30x85 smd: 1(-100,-100) 2(-50,-100) 3(0,-100) 4(50,-100) 5(100,-100) 6(100,105) 7(50,105) 8(0,105) 9(-50,105) 10(-100,105)
Top Overlay:
  text "*" at -120,10 h60
3D body: height 86.61, standoff 0, extent -150.59,-125 150.59,125

## EXB24AT-RF-ATT [mm]
pads (4):
  rect 0.3x0.25 smd: 1(-0.4,-0.4) 2(0.4,-0.4) 3(0.4,0.4) 4(-0.4,0.4)
Top Overlay:
  text "." at -0.8,0.8 h0.5
3D body: height 0.35, standoff 0, extent -0.5,-0.5 0.5,0.5

## HHM1711D1/HHM1732B1 [mm]
height 0.6
pads (6):
  rect 0.6x0.3 smd: 1(-0.45,0.55) 2(-0.45,0) 3(-0.45,-0.55) 4(0.45,-0.55) 5(0.45,0) 6(0.45,0.55)
Top Overlay:
  circle w0.25: c-1.225,0.5 r0.1
  lines w0.025: -0.1,0 0.1,0 ; 0,-0.1 0,0.1
  lines w0.25: -1.1,-1 -1.1,1 1.1,1 1.1,-1 -1.1,-1

## HMC788 [mm]
pads (7):
  rect 0.85x1.5 smd: 0(0,0)
  rect 0.45x0.3 smd: 1(-1,0.7) 2(-1,0) 3(-1,-0.7) 4(1,-0.7) 5(1,0) 6(1,0.7)
Top Overlay:
  text "*" at -1.4,2 h1
3D body: height 0.75, standoff 0, extent -1,-1 1,1

## HMC960 [mm]
pads (25):
  rect 2.8x2.8 smd: 0(0,0)
  rect 0.5x0.25 smd: 1(-2,1.25) 2(-2,0.75) 3(-2,0.25) 4(-2,-0.25) 5(-2,-0.75) 6(-2,-1.25) 13(2,-1.25) 14(2,-0.75) 15(2,-0.25) 16(2,0.25) 17(2,0.75) 18(2,1.25)
  rect 0.25x0.5 smd: 7(-1.25,-2) 8(-0.75,-2) 9(-0.25,-2) 10(0.25,-2) 11(0.75,-2) 12(1.25,-2) 19(1.25,2) 20(0.75,2) 21(0.25,2) 22(-0.25,2) 23(-0.75,2) 24(-1.25,2)
via -0.75,-0.75 diameter 0.45 hole 0.3
via 0.75,-0.75 diameter 0.45 hole 0.3
via 0.75,0.75 diameter 0.45 hole 0.3
via -0.75,0.75 diameter 0.45 hole 0.3
Top Overlay:
  circle w0.6: c-2.25,2.25 r0.354
3D body: height 0.9, standoff 0, extent -2,-2 2,2

## LFCN-6000 [mm]
pads (4):
  rect 1x1.2 smd: 1(-1.6,0) 2(1.6,0)
  rect 0.8x0.8 smd: 3(0,-1) 4(0,1)
3D body: height 1, standoff 0, extent -1.6,-0.8 1.6,0.8

## LMH6882 [mm]
pads (37):
  rect 4.6x4.6 smd: 0(0,0)
  rect 0.5x0.25 smd: 1(-3,2) 2(-3,1.5) 3(-3,1) 4(-3,0.5) 5(-3,0) 6(-3,-0.5) 7(-3,-1) 8(-3,-1.5) 9(-3,-2) 19(3,-2) 20(3,-1.5) 21(3,-1) 22(3,-0.5) 23(3,0) 24(3,0.5) 25(3,1) 26(3,1.5) 27(3,2)
  rect 0.25x0.5 smd: 10(-2,-3) 11(-1.5,-3) 12(-1,-3) 13(-0.5,-3) 14(0,-3) 15(0.5,-3) 16(1,-3) 17(1.5,-3) 18(2,-3) 28(2,3) 29(1.5,3) 30(1,3) 31(0.5,3) 32(0,3) 33(-0.5,3) 34(-1,3) 35(-1.5,3) 36(-2,3)
via 1.5,-0.75 diameter 0.45 hole 0.3
via 1.5,0 diameter 0.45 hole 0.3
via 1.5,0.75 diameter 0.45 hole 0.3
via 1.5,1.5 diameter 0.45 hole 0.3
via 0.75,1.5 diameter 0.45 hole 0.3
via 0.75,0.75 diameter 0.45 hole 0.3
via 0.75,0 diameter 0.45 hole 0.3
via 0.75,-0.75 diameter 0.45 hole 0.3
via -0.75,-0.75 diameter 0.45 hole 0.3
via -0.75,0 diameter 0.45 hole 0.3
via -0.75,0.75 diameter 0.45 hole 0.3
via -0.75,1.5 diameter 0.45 hole 0.3
via -1.5,1.5 diameter 0.45 hole 0.3
via -1.5,0.75 diameter 0.45 hole 0.3
via -1.5,0 diameter 0.45 hole 0.3
via -1.5,-0.75 diameter 0.45 hole 0.3
via -1.5,-1.5 diameter 0.45 hole 0.3
via -0.75,-1.5 diameter 0.45 hole 0.3
via 1.5,-1.5 diameter 0.45 hole 0.3
via 0.75,-1.5 diameter 0.45 hole 0.3
via 0,-1.5 diameter 0.45 hole 0.3
via 0,-0.75 diameter 0.45 hole 0.3
via 0,1.5 diameter 0.45 hole 0.3
via 0,0.75 diameter 0.45 hole 0.3
via 0,0 diameter 0.45 hole 0.3
Top Overlay:
  circle w0.5: c-3.75,3.75 r0.25
  lines w0.152: -3.25,-2.5 -3.25,-3.25 -2.5,-3.25 ; -3.25,2.5 -3.25,3.25 -2.5,3.25 ; 2.5,-3.25 3.25,-3.25 3.25,-2.5 ; 2.5,3.25 3.25,3.25 3.25,2.5
3D body: height 0.8, standoff 0, extent -3,-3 3,3

## LMK00304 [mm]
pads (33):
  rect 3.1x3.1 smd paste-1.537 mask+0.051: 0(0,0)
  rect 0.8x0.25 smd: 1(-2.6,1.75) 2(-2.6,1.25) 3(-2.6,0.75) 4(-2.6,0.25) 5(-2.6,-0.25) 6(-2.6,-0.75) 7(-2.6,-1.25) 8(-2.6,-1.75) 17(2.6,-1.75) 18(2.6,-1.25) 19(2.6,-0.75) 20(2.6,-0.25) 21(2.6,0.25) 22(2.6,0.75) 23(2.6,1.25) 24(2.6,1.75)
  rect 0.25x0.8 smd: 9(-1.75,-2.6) 10(-1.25,-2.6) 11(-0.75,-2.6) 12(-0.25,-2.6) 13(0.25,-2.6) 14(0.75,-2.6) 15(1.25,-2.6) 16(1.75,-2.6) 25(1.75,2.6) 26(1.25,2.6) 27(0.75,2.6) 28(0.25,2.6) 29(-0.25,2.6) 30(-0.75,2.6) 31(-1.25,2.6) 32(-1.75,2.6)
via 0,0 diameter 0.45 hole 0.3
via -1.27,-1.27 diameter 0.45 hole 0.3
via 1.27,-1.27 diameter 0.45 hole 0.3
via 1.27,1.27 diameter 0.45 hole 0.3
via -1.27,1.27 diameter 0.45 hole 0.3
Top Overlay:
  lines w0.203: -2.725,-2.1 -2.725,-2.725 -2.1,-2.725 ; 2.1,-2.725 2.725,-2.725 2.725,-2.1 ; 2.1,2.725 2.725,2.725 2.725,2.1 ; -3,2.625 -3,3.025 ; -3,2.625 -2.6,2.625 ; -3,2.625 -2.6,3.025 ; -3,3.025 -2.6,3.025 ; -3,3.025 -2.6,2.625 ; -2.6,2.625 -2.6,3.025
3D body: height 0.85, standoff 0, extent -2.5,-2.5 2.5,2.5

## LMK04816 [mm]
pads (65):
  rect 7.2x7.2 smd: 0(0,0)
  rect 0.6x0.25 smd: 1(-4.5,3.75) 2(-4.5,3.25) 3(-4.5,2.75) 4(-4.5,2.25) 5(-4.5,1.75) 6(-4.5,1.25) 7(-4.5,0.75) 8(-4.5,0.25) 9(-4.5,-0.25) 10(-4.5,-0.75) 11(-4.5,-1.25) 12(-4.5,-1.75) 13(-4.5,-2.25) 14(-4.5,-2.75) 15(-4.5,-3.25) 16(-4.5,-3.75) 33(4.5,-3.75) 34(4.5,-3.25) 35(4.5,-2.75) 36(4.5,-2.25) 37(4.5,-1.75) 38(4.5,-1.25) 39(4.5,-0.75) 40(4.5,-0.25) 41(4.5,0.25) 42(4.5,0.75) 43(4.5,1.25) 44(4.5,1.75) 45(4.5,2.25) 46(4.5,2.75) 47(4.5,3.25) 48(4.5,3.75)
  rect 0.25x0.6 smd: 17(-3.75,-4.5) 18(-3.25,-4.5) 19(-2.75,-4.5) 20(-2.25,-4.5) 21(-1.75,-4.5) 22(-1.25,-4.5) 23(-0.75,-4.5) 24(-0.25,-4.5) 25(0.25,-4.5) 26(0.75,-4.5) 27(1.25,-4.5) 28(1.75,-4.5) 29(2.25,-4.5) 30(2.75,-4.5) 31(3.25,-4.5) 32(3.75,-4.5) 49(3.75,4.5) 50(3.25,4.5) 51(2.75,4.5) 52(2.25,4.5) 53(1.75,4.5) 54(1.25,4.5) 55(0.75,4.5) 56(0.25,4.5) 57(-0.25,4.5) 58(-0.75,4.5) 59(-1.25,4.5) 60(-1.75,4.5) 61(-2.25,4.5) 62(-2.75,4.5) 63(-3.25,4.5) 64(-3.75,4.5)
via -0.6,0.6 diameter 0.45 hole 0.3
via -0.6,1.8 diameter 0.45 hole 0.3
via -0.6,3 diameter 0.45 hole 0.3
via -1.8,3 diameter 0.45 hole 0.3
via -1.8,1.8 diameter 0.45 hole 0.3
via -1.8,0.6 diameter 0.45 hole 0.3
via -3,0.6 diameter 0.45 hole 0.3
via -3,1.8 diameter 0.45 hole 0.3
via 0.6,0.6 diameter 0.45 hole 0.3
via 0.6,1.8 diameter 0.45 hole 0.3
via 0.6,3 diameter 0.45 hole 0.3
via 1.8,3 diameter 0.45 hole 0.3
via 1.8,1.8 diameter 0.45 hole 0.3
via 3,1.8 diameter 0.45 hole 0.3
via 3,0.6 diameter 0.45 hole 0.3
via 1.8,0.6 diameter 0.45 hole 0.3
via 1.8,-0.6 diameter 0.45 hole 0.3
via 3,-0.6 diameter 0.45 hole 0.3
via 0.6,-0.6 diameter 0.45 hole 0.3
via -0.6,-0.6 diameter 0.45 hole 0.3
via -1.8,-0.6 diameter 0.45 hole 0.3
via -3,-0.6 diameter 0.45 hole 0.3
via -3,-1.8 diameter 0.45 hole 0.3
via -1.8,-1.8 diameter 0.45 hole 0.3
via -0.6,-1.8 diameter 0.45 hole 0.3
via 0.6,-1.8 diameter 0.45 hole 0.3
via 1.8,-1.8 diameter 0.45 hole 0.3
via 3,-1.8 diameter 0.45 hole 0.3
via 1.8,-3 diameter 0.45 hole 0.3
via 0.6,-3 diameter 0.45 hole 0.3
via -0.6,-3 diameter 0.45 hole 0.3
via -1.8,-3 diameter 0.45 hole 0.3
Top Overlay:
  text "*" at -4.8,6 h1.52
3D body: height 0.8, standoff 0, extent -4.5,-4.5 4.5,4.5